# EAGLE library part OMN-A75243-001 (library GyroDrive)
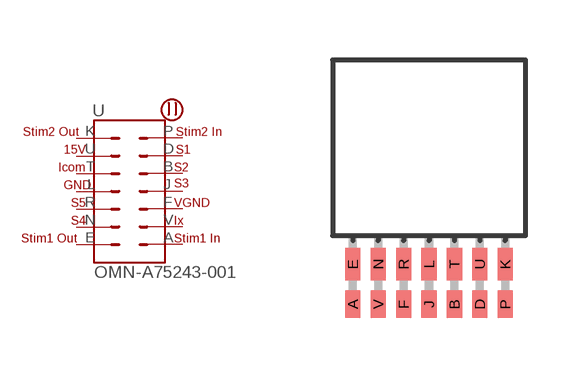
[diagram p1: symbol with the pads of OMN-A75243-001; footprint OMN-A75243-001]

Designator prefix -

## OMN-A75243-001  [OMN-A75243-001]
A  A  pas
B  B  pas
D  D  pas
E  E  pas
F  F  pas
J  J  pas
K  K  pas
L  L  pas
N  N  pas
P  P  pas
R  R  pas
T  T  pas
U  U  pas
V  V  pas

## Footprint OMN-A75243-001 (pad centres in mm)
smd 0.381 x 0.686: A -1.905,-0.47; B 0.635,-0.47; D 1.27,-0.47; F -0.635,-0.47; J 0,-0.47; P 1.905,-0.47; V -1.27,-0.47
smd 0.381 x 0.813: E -1.905,0.533; K 1.905,0.533; L 0,0.533; N -1.27,0.533; R -0.635,0.533; T 0.635,0.533; U 1.27,0.533